# Altium schematic symbol library OPA1612AID.SchLib: 1 symbol
Pins are listed as number, name and electrical type; pins without a type are passive.

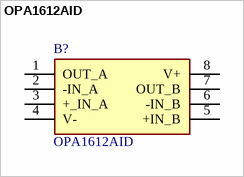
[diagram p0: symbol OPA1612AID]

## OPA1612AID
designator B?
Audio Amplifiers 1.1nV Noise Low Pwr Prec Op Amp; Manufacturer_Name: Texas Instruments; Geometry.Height: 1.75mm; Mouser Part Number: 595-OPA1612AID; Mouser Price/Stock: https://www.mouser.co.uk/ProductDetail/Texas-Instruments/OPA1612AID?qs=6805eV47HhZ33ht61fXkkg%3D%3D; Manufacturer_Part_Number: OPA1612AID; Datasheet Link: https://www.ti.com/lit/gpn/OPA1612
footprint SOIC127P600X175-8N
pins: 1 OUT_A, 2 -IN_A, 3 +_IN_A, 4 V-, 5 +IN_B, 6 -IN_B, 7 OUT_B, 8 V+